# EAGLE library part SI9407DY (library lfpak.mosfet)
MOSFET, P CH, 60V, 4.7A, 8SOIC Si9407 Transistor Polarity: P Channel Continuous Drain Current Id: -4.7A Drain Source Voltage Vds: -60V On Resistance Rds(on): 0.1ohm Rds(on) Test Voltage Vgs: -10V Threshold Voltage Vgs: -3V Power Dissipation Pd: 5W Operating Temperature Min: -55°C Operating Temperature Max: 150°C Transistor Case Style: SOIC No. of Pins: 8 MSL: MSL 1 - Unlimited Operating Temperature Range: -55°C to +150°C
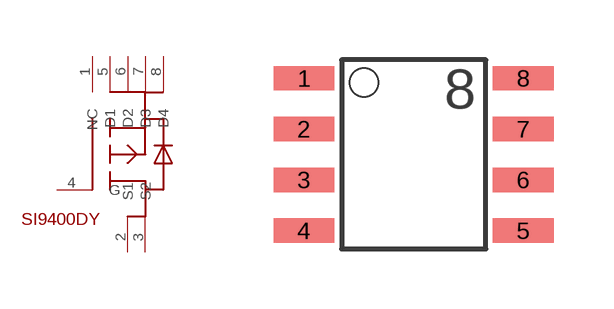
[diagram p4: symbol with the pads of SO-8; footprint SO-8]

Designator prefix -

## SI9407DY (MPN: SI9407BDY-T1-GE3; OC_FARNELL: 2101454; PACKAGE: SO-08; SUPPLIER: VISHAY)  [SO-8]
1  NC
2  S1
3  S2
4  G
5  D1
6  D2
7  D3
8  D4

## Footprint SO-8 (pad centres in mm)
smd 1.524 x 0.61: 1 -2.743,1.27; 2 -2.743,0; 3 -2.743,-1.27; 4 -2.743,-2.54; 5 2.743,-2.54; 6 2.743,-1.27; 7 2.743,0; 8 2.743,1.27